# EAGLE library part MCP4161-103E/SN (library CASE-RCL)
MICROSHIP MCP4161-103E/SN Description: MCP4161-103E/SN SPI Potentiometer with non volatile memory from MICROSHIP. SOIC version. Links: Datasheet <http://www.farnell.com/datasheets/630445.pdf?_ga=2.38575975.579945346.1537035231-1112771566.1525371275&_gac=1.58330712.1534272045.CjwKCAjw-8nbBRBnEiwAqWt1zXIv27p0JJOXdsLmacbpA7WUg7D8rpNEpnQqv-3MCFOzZ11K606C1RoCpGYQAvD_BwE> MCP4161-103E/SN <https://se.farnell.com/microchip/mcp4161-103e-p/ic-dig-pot-10kohm-257-taps-pdip/dp/1840807?st=spi%20potentiometer>
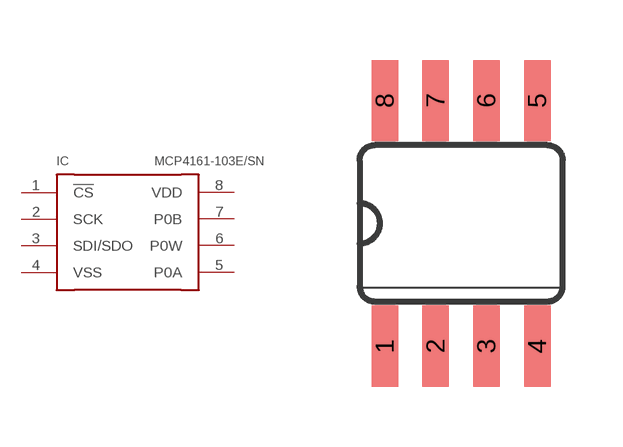
[diagram p1: symbol with the pads of SO08; footprint SO08]

Designator prefix IC

## MCP4161-103E/SN  [SO08]
1  !CS
2  SCK
3  SDI/SDO
4  VSS  pwr
5  P0A
6  P0W
7  P0B
8  VDD  pwr

## Footprint SO08 (pad centres in mm)
Small Outline package 8 150 mil
smd 0.66 x 2.032: 1 -1.905,-3.073; 2 -0.635,-3.073; 3 0.635,-3.073; 4 1.905,-3.073; 5 1.905,3.073; 6 0.635,3.073; 7 -0.635,3.073; 8 -1.905,3.073